# Altium integrated library Atmel Microcontroller 8-Bit AVR.IntLib: 240 symbols (part 2 of 8)
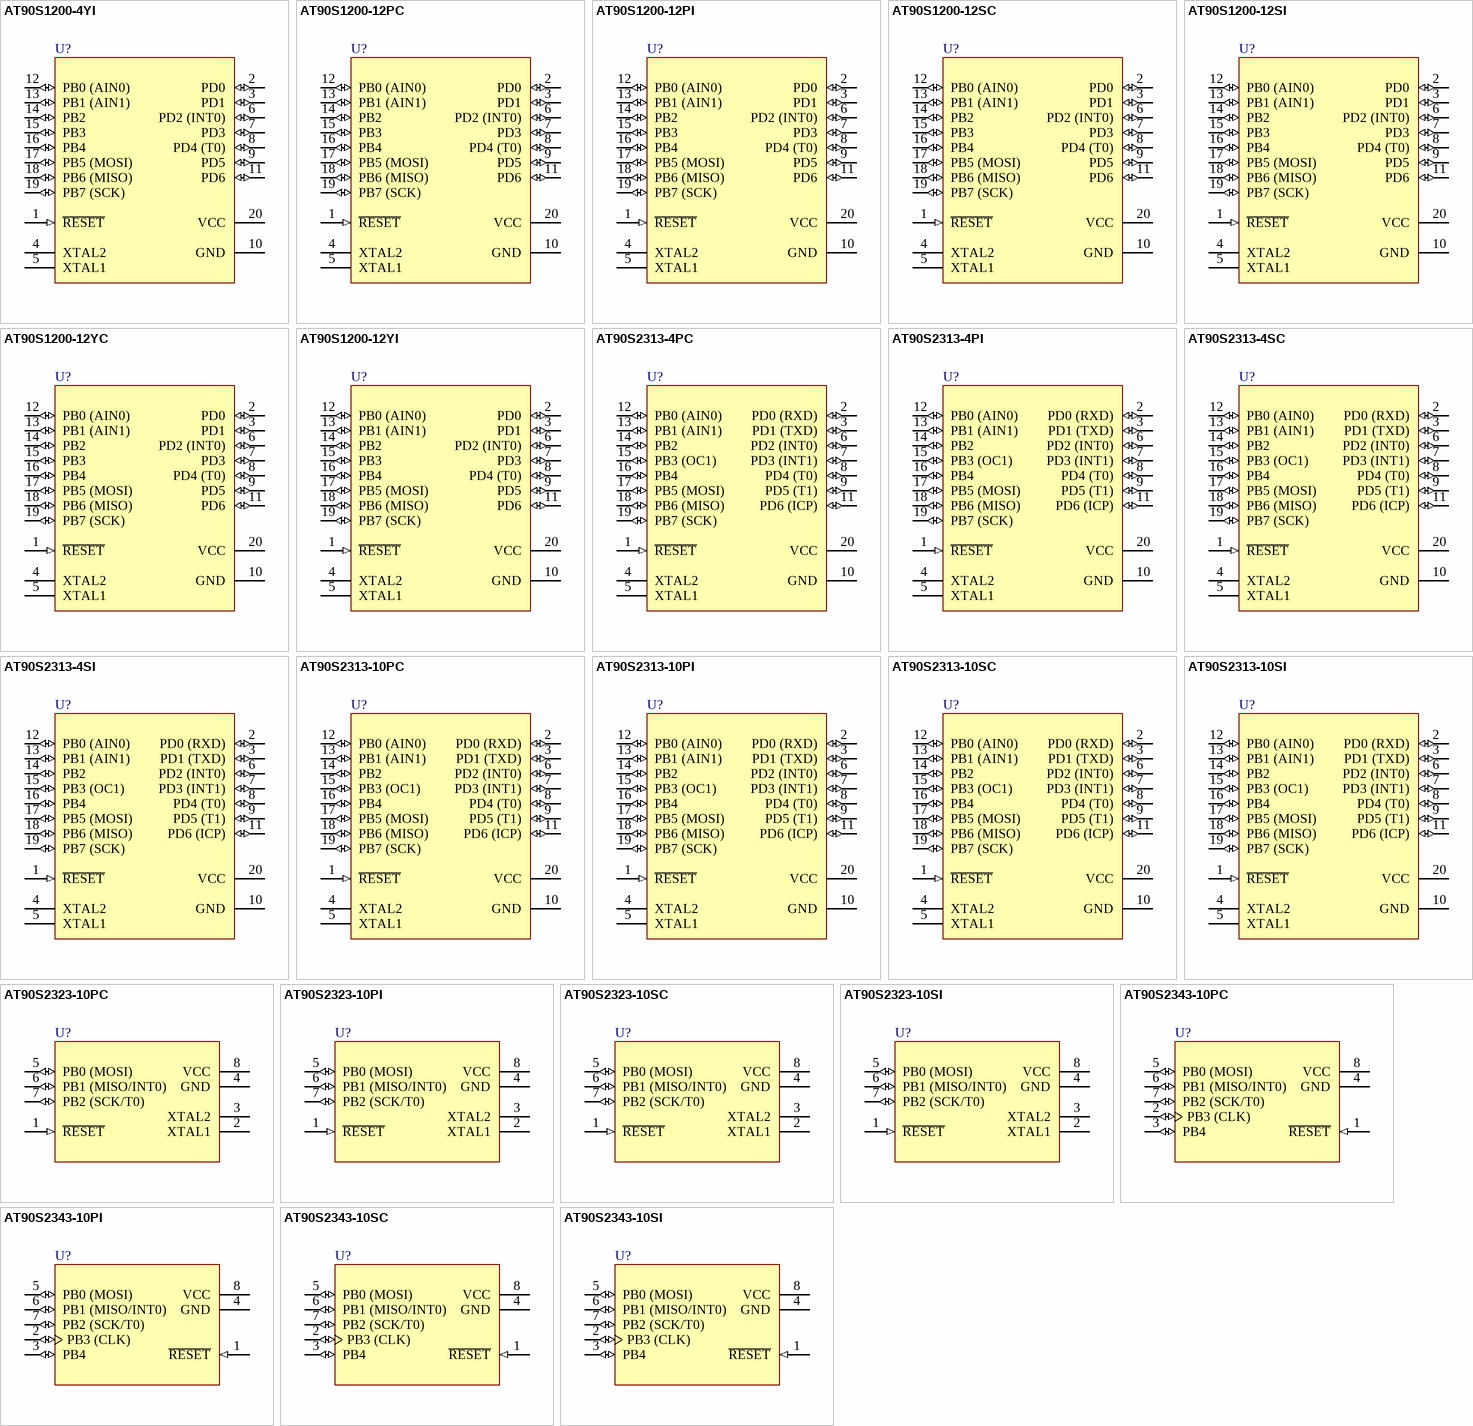
[diagram p19: symbols AT90S1200-4YI to AT90S2343-10SI]

## AT90S1200-12YI
designator U?
8-Bit AVR Microcontroller with 1K Byte of In-System Programmable Flash Memory; Published: 17-Sep-2003; LatestRevisionDate: 16-Oct-2006; LatestRevisionNote: IPC-7351 Footprint Added.; DatasheetVersion: 0838H-AVR-03/02; PackageVersion: revA, Apr-2001; PackageReference: 20Y; Publisher: Altium Limited; PackageDescription: 20-Pin Small Outline Package 0.65 mm Pitch; Code_JEDEC: MO-150-AE; Code_IPC: SOP65P780-20; ComponentLink1Description: Manufacturer Link; ComponentLink1URL: http://www.atmel.com; ComponentLink2Description: Datasheet; ComponentLink2URL: http://www.atmel.com/dyn/resources/prod_documents/doc0838.pdf
footprint 20Y_N (SOP, 20-Leads, Body 7.2x5.3mm, Pitch 0.65mm, IPC Medium Density)
footprint 20Y_L (SOP, 20-Leads, Body 7.2x5.3mm, Pitch 0.65mm, IPC High Density)
footprint 20Y_M (SOP, 20-Leads, Body 7.2x5.3mm, Pitch 0.65mm, IPC Low Density)
3D model 20Y (20-Pin Small Outline Package 0.65 mm Pitch)
pins: 1 ~{RESET} (in), 2 PD0 (io), 3 PD1 (io), 4 XTAL2, 5 XTAL1, 6 PD2 (INT0) (io), 7 PD3 (io), 8 PD4 (T0) (io), 9 PD5 (io), 10 GND (power), 11 PD6 (io), 12 PB0 (AIN0) (io), 13 PB1 (AIN1) (io), 14 PB2 (io), 15 PB3 (io), 16 PB4 (io), 17 PB5 (MOSI) (io), 18 PB6 (MISO) (io), 19 PB7 (SCK) (io), 20 VCC (power)

## AT90S2313-4PC
designator U?
8-Bit AVR Microcontroller with 2K Bytes of In-System Programmable Flash Memory; Published: 17-Sep-2003; LatestRevisionDate: 04-Mar-2005; LatestRevisionNote: Stylized 3D Model Added.; DatasheetVersion: 0839I-AVR-06/02; PackageVersion: Aug-1999; PackageReference: 20P3; Publisher: Altium Limited; PackageDescription: DIP; 20 Leads; Row Spacing 7.62 mm; Pitch 2.54 mm; Code_JEDEC: MS-001-AD; ComponentLink1Description: Manufacturer Link; ComponentLink1URL: http://www.atmel.com; ComponentLink2Description: Datasheet; ComponentLink2URL: http://www.atmel.com/dyn/resources/prod_documents/doc0839.pdf
footprint 20P3 (DIP; 20 Leads; Row Spacing 7.62 mm; Pitch 2.54 mm)
3D model 20P3 (DIP; 20 Leads; Row Spacing 7.62 mm; Pitch 2.54 mm)
pins: 1 ~{RESET} (in), 2 PD0 (RXD) (io), 3 PD1 (TXD) (io), 4 XTAL2, 5 XTAL1, 6 PD2 (INT0) (io), 7 PD3 (INT1) (io), 8 PD4 (T0) (io), 9 PD5 (T1) (io), 10 GND (power), 11 PD6 (ICP) (io), 12 PB0 (AIN0) (io), 13 PB1 (AIN1) (io), 14 PB2 (io), 15 PB3 (OC1) (io), 16 PB4 (io), 17 PB5 (MOSI) (io), 18 PB6 (MISO) (io), 19 PB7 (SCK) (io), 20 VCC (power)

## AT90S2313-4PI
designator U?
8-Bit AVR Microcontroller with 2K Bytes of In-System Programmable Flash Memory; Published: 17-Sep-2003; LatestRevisionDate: 04-Mar-2005; LatestRevisionNote: Stylized 3D Model Added.; DatasheetVersion: 0839I-AVR-06/02; PackageVersion: Aug-1999; PackageReference: 20P3; Publisher: Altium Limited; PackageDescription: DIP; 20 Leads; Row Spacing 7.62 mm; Pitch 2.54 mm; Code_JEDEC: MS-001-AD; ComponentLink1Description: Manufacturer Link; ComponentLink1URL: http://www.atmel.com; ComponentLink2Description: Datasheet; ComponentLink2URL: http://www.atmel.com/dyn/resources/prod_documents/doc0839.pdf
footprint 20P3 (DIP; 20 Leads; Row Spacing 7.62 mm; Pitch 2.54 mm)
3D model 20P3 (DIP; 20 Leads; Row Spacing 7.62 mm; Pitch 2.54 mm)
pins: 1 ~{RESET} (in), 2 PD0 (RXD) (io), 3 PD1 (TXD) (io), 4 XTAL2, 5 XTAL1, 6 PD2 (INT0) (io), 7 PD3 (INT1) (io), 8 PD4 (T0) (io), 9 PD5 (T1) (io), 10 GND (power), 11 PD6 (ICP) (io), 12 PB0 (AIN0) (io), 13 PB1 (AIN1) (io), 14 PB2 (io), 15 PB3 (OC1) (io), 16 PB4 (io), 17 PB5 (MOSI) (io), 18 PB6 (MISO) (io), 19 PB7 (SCK) (io), 20 VCC (power)

## AT90S2313-4SC
designator U?
8-Bit AVR Microcontroller with 2K Bytes of In-System Programmable Flash Memory; Published: 17-Sep-2003; LatestRevisionDate: 13-Apr-2006; LatestRevisionNote: IPC-7351 Footprint Added.; DatasheetVersion: 0839I-AVR-06/02; PackageVersion: Aug-1999; PackageReference: 20S; Publisher: Altium Limited; PackageDescription: 20-Pin Small Outline Integrated Circuit 1.27 mm Pitch; ComponentLink1Description: Manufacturer Link; ComponentLink1URL: http://www.atmel.com; ComponentLink2Description: Datasheet; ComponentLink2URL: http://www.atmel.com/dyn/resources/prod_documents/doc0839.pdf
footprint 20S_N (SOIC, 20-Leads, Body 12.8x7.5mm, Pitch 1.27mm, IPC Medium Density)
footprint 20S_L (SOIC, 20-Leads, Body 12.8x7.5mm, Pitch 1.27mm, IPC High Density)
footprint 20S_M (SOIC, 20-Leads, Body 12.8x7.5mm, Pitch 1.27mm, IPC Low Density)
3D model 20S (20-Pin Small Outline Integrated Circuit 1.27 mm Pitch)
pins: 1 ~{RESET} (in), 2 PD0 (RXD) (io), 3 PD1 (TXD) (io), 4 XTAL2, 5 XTAL1, 6 PD2 (INT0) (io), 7 PD3 (INT1) (io), 8 PD4 (T0) (io), 9 PD5 (T1) (io), 10 GND (power), 11 PD6 (ICP) (io), 12 PB0 (AIN0) (io), 13 PB1 (AIN1) (io), 14 PB2 (io), 15 PB3 (OC1) (io), 16 PB4 (io), 17 PB5 (MOSI) (io), 18 PB6 (MISO) (io), 19 PB7 (SCK) (io), 20 VCC (power)

## AT90S2313-4SI
designator U?
8-Bit AVR Microcontroller with 2K Bytes of In-System Programmable Flash Memory; Published: 17-Sep-2003; LatestRevisionDate: 13-Apr-2006; LatestRevisionNote: IPC-7351 Footprint Added.; DatasheetVersion: 0839I-AVR-06/02; PackageVersion: Aug-1999; PackageReference: 20S; Publisher: Altium Limited; PackageDescription: 20-Pin Small Outline Integrated Circuit 1.27 mm Pitch; ComponentLink1Description: Manufacturer Link; ComponentLink1URL: http://www.atmel.com; ComponentLink2Description: Datasheet; ComponentLink2URL: http://www.atmel.com/dyn/resources/prod_documents/doc0839.pdf
footprint 20S_N (SOIC, 20-Leads, Body 12.8x7.5mm, Pitch 1.27mm, IPC Medium Density)
footprint 20S_L (SOIC, 20-Leads, Body 12.8x7.5mm, Pitch 1.27mm, IPC High Density)
footprint 20S_M (SOIC, 20-Leads, Body 12.8x7.5mm, Pitch 1.27mm, IPC Low Density)
3D model 20S (20-Pin Small Outline Integrated Circuit 1.27 mm Pitch)
pins: 1 ~{RESET} (in), 2 PD0 (RXD) (io), 3 PD1 (TXD) (io), 4 XTAL2, 5 XTAL1, 6 PD2 (INT0) (io), 7 PD3 (INT1) (io), 8 PD4 (T0) (io), 9 PD5 (T1) (io), 10 GND (power), 11 PD6 (ICP) (io), 12 PB0 (AIN0) (io), 13 PB1 (AIN1) (io), 14 PB2 (io), 15 PB3 (OC1) (io), 16 PB4 (io), 17 PB5 (MOSI) (io), 18 PB6 (MISO) (io), 19 PB7 (SCK) (io), 20 VCC (power)

## AT90S2313-10PC
designator U?
8-Bit AVR Microcontroller with 2K Bytes of In-System Programmable Flash Memory; Published: 17-Sep-2003; LatestRevisionDate: 04-Mar-2005; LatestRevisionNote: Stylized 3D Model Added.; DatasheetVersion: 0839I-AVR-06/02; PackageVersion: Aug-1999; PackageReference: 20P3; Publisher: Altium Limited; PackageDescription: DIP; 20 Leads; Row Spacing 7.62 mm; Pitch 2.54 mm; Code_JEDEC: MS-001-AD; ComponentLink1Description: Manufacturer Link; ComponentLink1URL: http://www.atmel.com; ComponentLink2Description: Datasheet; ComponentLink2URL: http://www.atmel.com/dyn/resources/prod_documents/doc0839.pdf
footprint 20P3 (DIP; 20 Leads; Row Spacing 7.62 mm; Pitch 2.54 mm)
3D model 20P3 (DIP; 20 Leads; Row Spacing 7.62 mm; Pitch 2.54 mm)
pins: 1 ~{RESET} (in), 2 PD0 (RXD) (io), 3 PD1 (TXD) (io), 4 XTAL2, 5 XTAL1, 6 PD2 (INT0) (io), 7 PD3 (INT1) (io), 8 PD4 (T0) (io), 9 PD5 (T1) (io), 10 GND (power), 11 PD6 (ICP) (io), 12 PB0 (AIN0) (io), 13 PB1 (AIN1) (io), 14 PB2 (io), 15 PB3 (OC1) (io), 16 PB4 (io), 17 PB5 (MOSI) (io), 18 PB6 (MISO) (io), 19 PB7 (SCK) (io), 20 VCC (power)

## AT90S2313-10PI
designator U?
8-Bit AVR Microcontroller with 2K Bytes of In-System Programmable Flash Memory; Published: 17-Sep-2003; LatestRevisionDate: 04-Mar-2005; LatestRevisionNote: Stylized 3D Model Added.; DatasheetVersion: 0839I-AVR-06/02; PackageVersion: Aug-1999; PackageReference: 20P3; Publisher: Altium Limited; PackageDescription: DIP; 20 Leads; Row Spacing 7.62 mm; Pitch 2.54 mm; Code_JEDEC: MS-001-AD; ComponentLink1Description: Manufacturer Link; ComponentLink1URL: http://www.atmel.com; ComponentLink2Description: Datasheet; ComponentLink2URL: http://www.atmel.com/dyn/resources/prod_documents/doc0839.pdf
footprint 20P3 (DIP; 20 Leads; Row Spacing 7.62 mm; Pitch 2.54 mm)
3D model 20P3 (DIP; 20 Leads; Row Spacing 7.62 mm; Pitch 2.54 mm)
pins: 1 ~{RESET} (in), 2 PD0 (RXD) (io), 3 PD1 (TXD) (io), 4 XTAL2, 5 XTAL1, 6 PD2 (INT0) (io), 7 PD3 (INT1) (io), 8 PD4 (T0) (io), 9 PD5 (T1) (io), 10 GND (power), 11 PD6 (ICP) (io), 12 PB0 (AIN0) (io), 13 PB1 (AIN1) (io), 14 PB2 (io), 15 PB3 (OC1) (io), 16 PB4 (io), 17 PB5 (MOSI) (io), 18 PB6 (MISO) (io), 19 PB7 (SCK) (io), 20 VCC (power)

## AT90S2313-10SC
designator U?
8-Bit AVR Microcontroller with 2K Bytes of In-System Programmable Flash Memory; Published: 17-Sep-2003; LatestRevisionDate: 13-Apr-2006; LatestRevisionNote: IPC-7351 Footprint Added.; DatasheetVersion: 0839I-AVR-06/02; PackageVersion: Aug-1999; PackageReference: 20S; Publisher: Altium Limited; PackageDescription: 20-Pin Small Outline Integrated Circuit 1.27 mm Pitch; ComponentLink1Description: Manufacturer Link; ComponentLink1URL: http://www.atmel.com; ComponentLink2Description: Datasheet; ComponentLink2URL: http://www.atmel.com/dyn/resources/prod_documents/doc0839.pdf
footprint 20S_N (SOIC, 20-Leads, Body 12.8x7.5mm, Pitch 1.27mm, IPC Medium Density)
footprint 20S_L (SOIC, 20-Leads, Body 12.8x7.5mm, Pitch 1.27mm, IPC High Density)
footprint 20S_M (SOIC, 20-Leads, Body 12.8x7.5mm, Pitch 1.27mm, IPC Low Density)
3D model 20S (20-Pin Small Outline Integrated Circuit 1.27 mm Pitch)
pins: 1 ~{RESET} (in), 2 PD0 (RXD) (io), 3 PD1 (TXD) (io), 4 XTAL2, 5 XTAL1, 6 PD2 (INT0) (io), 7 PD3 (INT1) (io), 8 PD4 (T0) (io), 9 PD5 (T1) (io), 10 GND (power), 11 PD6 (ICP) (io), 12 PB0 (AIN0) (io), 13 PB1 (AIN1) (io), 14 PB2 (io), 15 PB3 (OC1) (io), 16 PB4 (io), 17 PB5 (MOSI) (io), 18 PB6 (MISO) (io), 19 PB7 (SCK) (io), 20 VCC (power)

## AT90S2313-10SI
designator U?
8-Bit AVR Microcontroller with 2K Bytes of In-System Programmable Flash Memory; Published: 17-Sep-2003; LatestRevisionDate: 13-Apr-2006; LatestRevisionNote: IPC-7351 Footprint Added.; DatasheetVersion: 0839I-AVR-06/02; PackageVersion: Aug-1999; PackageReference: 20S; Publisher: Altium Limited; PackageDescription: 20-Pin Small Outline Integrated Circuit 1.27 mm Pitch; ComponentLink1Description: Manufacturer Link; ComponentLink1URL: http://www.atmel.com; ComponentLink2Description: Datasheet; ComponentLink2URL: http://www.atmel.com/dyn/resources/prod_documents/doc0839.pdf
footprint 20S_N (SOIC, 20-Leads, Body 12.8x7.5mm, Pitch 1.27mm, IPC Medium Density)
footprint 20S_L (SOIC, 20-Leads, Body 12.8x7.5mm, Pitch 1.27mm, IPC High Density)
footprint 20S_M (SOIC, 20-Leads, Body 12.8x7.5mm, Pitch 1.27mm, IPC Low Density)
3D model 20S (20-Pin Small Outline Integrated Circuit 1.27 mm Pitch)
pins: 1 ~{RESET} (in), 2 PD0 (RXD) (io), 3 PD1 (TXD) (io), 4 XTAL2, 5 XTAL1, 6 PD2 (INT0) (io), 7 PD3 (INT1) (io), 8 PD4 (T0) (io), 9 PD5 (T1) (io), 10 GND (power), 11 PD6 (ICP) (io), 12 PB0 (AIN0) (io), 13 PB1 (AIN1) (io), 14 PB2 (io), 15 PB3 (OC1) (io), 16 PB4 (io), 17 PB5 (MOSI) (io), 18 PB6 (MISO) (io), 19 PB7 (SCK) (io), 20 VCC (power)

## AT90S2323-10PC
designator U?
8-Bit AVR Microcontroller with 2K Bytes of In-System Programmable Flash Memory; Published: 17-Sep-2003; LatestRevisionDate: 04-Mar-2005; LatestRevisionNote: Stylized 3D Model Added.; DatasheetVersion: 1004D-09/01; PackageVersion: revB, Sep-2001; PackageReference: 8P3; Publisher: Altium Limited; PackageDescription: DIP; 8 Leads; Row Spacing 7.62 mm; Pitch 2.54 mm; ComponentLink1Description: Manufacturer Link; ComponentLink1URL: http://www.atmel.com; ComponentLink2Description: Datasheet; ComponentLink2URL: http://www.atmel.com/dyn/resources/prod_documents/doc1004.pdf
footprint 8P3 (DIP; 8 Leads; Row Spacing 7.62 mm; Pitch 2.54 mm)
3D model 8P3 (DIP; 8 Leads; Row Spacing 7.62 mm; Pitch 2.54 mm)
pins: 1 ~{RESET} (in), 2 XTAL1, 3 XTAL2, 4 GND (power), 5 PB0 (MOSI) (io), 6 PB1 (MISO/INT0) (io), 7 PB2 (SCK/T0) (io), 8 VCC (power)

## AT90S2323-10PI
designator U?
8-Bit AVR Microcontroller with 2K Bytes of In-System Programmable Flash Memory; Published: 17-Sep-2003; LatestRevisionDate: 04-Mar-2005; LatestRevisionNote: Stylized 3D Model Added.; DatasheetVersion: 1004D-09/01; PackageVersion: revB, Sep-2001; PackageReference: 8P3; Publisher: Altium Limited; PackageDescription: DIP; 8 Leads; Row Spacing 7.62 mm; Pitch 2.54 mm; ComponentLink1Description: Manufacturer Link; ComponentLink1URL: http://www.atmel.com; ComponentLink2Description: Datasheet; ComponentLink2URL: http://www.atmel.com/dyn/resources/prod_documents/doc1004.pdf
footprint 8P3 (DIP; 8 Leads; Row Spacing 7.62 mm; Pitch 2.54 mm)
3D model 8P3 (DIP; 8 Leads; Row Spacing 7.62 mm; Pitch 2.54 mm)
pins: 1 ~{RESET} (in), 2 XTAL1, 3 XTAL2, 4 GND (power), 5 PB0 (MOSI) (io), 6 PB1 (MISO/INT0) (io), 7 PB2 (SCK/T0) (io), 8 VCC (power)

## AT90S2323-10SC
designator U?
8-Bit AVR Microcontroller with 2K Bytes of In-System Programmable Flash Memory; Published: 17-Sep-2003; LatestRevisionDate: 13-Apr-2006; LatestRevisionNote: IPC-7351 Footprint Added.; DatasheetVersion: 1004D-09/01; PackageVersion: revB, May-2002; PackageReference: 8S2; Publisher: Altium Limited; PackageDescription: 8-Pin Small Outline Package 1.27 mm Pitch; ComponentLink1Description: Manufacturer Link; ComponentLink1URL: http://www.atmel.com; ComponentLink2Description: Datasheet; ComponentLink2URL: http://www.atmel.com/dyn/resources/prod_documents/doc1004.pdf
footprint 8S2_N (SOP, 8-Leads, Body 5.3x5.3mm, Pitch 1.27mm, IPC Medium Density)
footprint 8S2_L (SOP, 8-Leads, Body 5.3x5.3mm, Pitch 1.27mm, IPC High Density)
footprint 8S2_M (SOP, 8-Leads, Body 5.3x5.3mm, Pitch 1.27mm, IPC Low Density)
3D model 8S2 (8-Pin Small Outline Package 1.27 mm Pitch)
pins: 1 ~{RESET} (in), 2 XTAL1, 3 XTAL2, 4 GND (power), 5 PB0 (MOSI) (io), 6 PB1 (MISO/INT0) (io), 7 PB2 (SCK/T0) (io), 8 VCC (power)

## AT90S2323-10SI
designator U?
8-Bit AVR Microcontroller with 2K Bytes of In-System Programmable Flash Memory; Published: 17-Sep-2003; LatestRevisionDate: 13-Apr-2006; LatestRevisionNote: IPC-7351 Footprint Added.; DatasheetVersion: 1004D-09/01; PackageVersion: revB, May-2002; PackageReference: 8S2; Publisher: Altium Limited; PackageDescription: 8-Pin Small Outline Package 1.27 mm Pitch; ComponentLink1Description: Manufacturer Link; ComponentLink1URL: http://www.atmel.com; ComponentLink2Description: Datasheet; ComponentLink2URL: http://www.atmel.com/dyn/resources/prod_documents/doc1004.pdf
footprint 8S2_N (SOP, 8-Leads, Body 5.3x5.3mm, Pitch 1.27mm, IPC Medium Density)
footprint 8S2_L (SOP, 8-Leads, Body 5.3x5.3mm, Pitch 1.27mm, IPC High Density)
footprint 8S2_M (SOP, 8-Leads, Body 5.3x5.3mm, Pitch 1.27mm, IPC Low Density)
3D model 8S2 (8-Pin Small Outline Package 1.27 mm Pitch)
pins: 1 ~{RESET} (in), 2 XTAL1, 3 XTAL2, 4 GND (power), 5 PB0 (MOSI) (io), 6 PB1 (MISO/INT0) (io), 7 PB2 (SCK/T0) (io), 8 VCC (power)

## AT90S2343-10PC
designator U?
8-Bit AVR Microcontroller with 2K Bytes of In-System Programmable Flash Memory; Published: 17-Sep-2003; LatestRevisionDate: 04-Mar-2005; LatestRevisionNote: Stylized 3D Model Added.; DatasheetVersion: 1004D-09/01; PackageVersion: revB, Sep-2001; PackageReference: 8P3; Publisher: Altium Limited; PackageDescription: DIP; 8 Leads; Row Spacing 7.62 mm; Pitch 2.54 mm; ComponentLink1Description: Manufacturer Link; ComponentLink1URL: http://www.atmel.com; ComponentLink2Description: Datasheet; ComponentLink2URL: http://www.atmel.com/dyn/resources/prod_documents/doc1004.pdf
footprint 8P3 (DIP; 8 Leads; Row Spacing 7.62 mm; Pitch 2.54 mm)
3D model 8P3 (DIP; 8 Leads; Row Spacing 7.62 mm; Pitch 2.54 mm)
pins: 1 ~{RESET} (in), 2 PB3 (CLK) (io), 3 PB4 (io), 4 GND (power), 5 PB0 (MOSI) (io), 6 PB1 (MISO/INT0) (io), 7 PB2 (SCK/T0) (io), 8 VCC (power)

## AT90S2343-10PI
designator U?
8-Bit AVR Microcontroller with 2K Bytes of In-System Programmable Flash Memory; Published: 17-Sep-2003; LatestRevisionDate: 04-Mar-2005; LatestRevisionNote: Stylized 3D Model Added.; DatasheetVersion: 1004D-09/01; PackageVersion: revB, Sep-2001; PackageReference: 8P3; Publisher: Altium Limited; PackageDescription: DIP; 8 Leads; Row Spacing 7.62 mm; Pitch 2.54 mm; ComponentLink1Description: Manufacturer Link; ComponentLink1URL: http://www.atmel.com; ComponentLink2Description: Datasheet; ComponentLink2URL: http://www.atmel.com/dyn/resources/prod_documents/doc1004.pdf
footprint 8P3 (DIP; 8 Leads; Row Spacing 7.62 mm; Pitch 2.54 mm)
3D model 8P3 (DIP; 8 Leads; Row Spacing 7.62 mm; Pitch 2.54 mm)
pins: 1 ~{RESET} (in), 2 PB3 (CLK) (io), 3 PB4 (io), 4 GND (power), 5 PB0 (MOSI) (io), 6 PB1 (MISO/INT0) (io), 7 PB2 (SCK/T0) (io), 8 VCC (power)

## AT90S2343-10SC
designator U?
8-Bit AVR Microcontroller with 2K Bytes of In-System Programmable Flash Memory; Published: 17-Sep-2003; LatestRevisionDate: 13-Apr-2006; LatestRevisionNote: IPC-7351 Footprint Added.; DatasheetVersion: 1004D-09/01; PackageVersion: revB, May-2002; PackageReference: 8S2; Publisher: Altium Limited; PackageDescription: 8-Pin Small Outline Package 1.27 mm Pitch; ComponentLink1Description: Manufacturer Link; ComponentLink1URL: http://www.atmel.com; ComponentLink2Description: Datasheet; ComponentLink2URL: http://www.atmel.com/dyn/resources/prod_documents/doc1004.pdf
footprint 8S2_N (SOP, 8-Leads, Body 5.3x5.3mm, Pitch 1.27mm, IPC Medium Density)
footprint 8S2_L (SOP, 8-Leads, Body 5.3x5.3mm, Pitch 1.27mm, IPC High Density)
footprint 8S2_M (SOP, 8-Leads, Body 5.3x5.3mm, Pitch 1.27mm, IPC Low Density)
3D model 8S2 (8-Pin Small Outline Package 1.27 mm Pitch)
pins: 1 ~{RESET} (in), 2 PB3 (CLK) (io), 3 PB4 (io), 4 GND (power), 5 PB0 (MOSI) (io), 6 PB1 (MISO/INT0) (io), 7 PB2 (SCK/T0) (io), 8 VCC (power)

## AT90S2343-10SI
designator U?
8-Bit AVR Microcontroller with 2K Bytes of In-System Programmable Flash Memory; Published: 17-Sep-2003; LatestRevisionDate: 13-Apr-2006; LatestRevisionNote: IPC-7351 Footprint Added.; DatasheetVersion: 1004D-09/01; PackageVersion: revB, May-2002; PackageReference: 8S2; Publisher: Altium Limited; PackageDescription: 8-Pin Small Outline Package 1.27 mm Pitch; ComponentLink1Description: Manufacturer Link; ComponentLink1URL: http://www.atmel.com; ComponentLink2Description: Datasheet; ComponentLink2URL: http://www.atmel.com/dyn/resources/prod_documents/doc1004.pdf
footprint 8S2_N (SOP, 8-Leads, Body 5.3x5.3mm, Pitch 1.27mm, IPC Medium Density)
footprint 8S2_L (SOP, 8-Leads, Body 5.3x5.3mm, Pitch 1.27mm, IPC High Density)
footprint 8S2_M (SOP, 8-Leads, Body 5.3x5.3mm, Pitch 1.27mm, IPC Low Density)
3D model 8S2 (8-Pin Small Outline Package 1.27 mm Pitch)
pins: 1 ~{RESET} (in), 2 PB3 (CLK) (io), 3 PB4 (io), 4 GND (power), 5 PB0 (MOSI) (io), 6 PB1 (MISO/INT0) (io), 7 PB2 (SCK/T0) (io), 8 VCC (power)

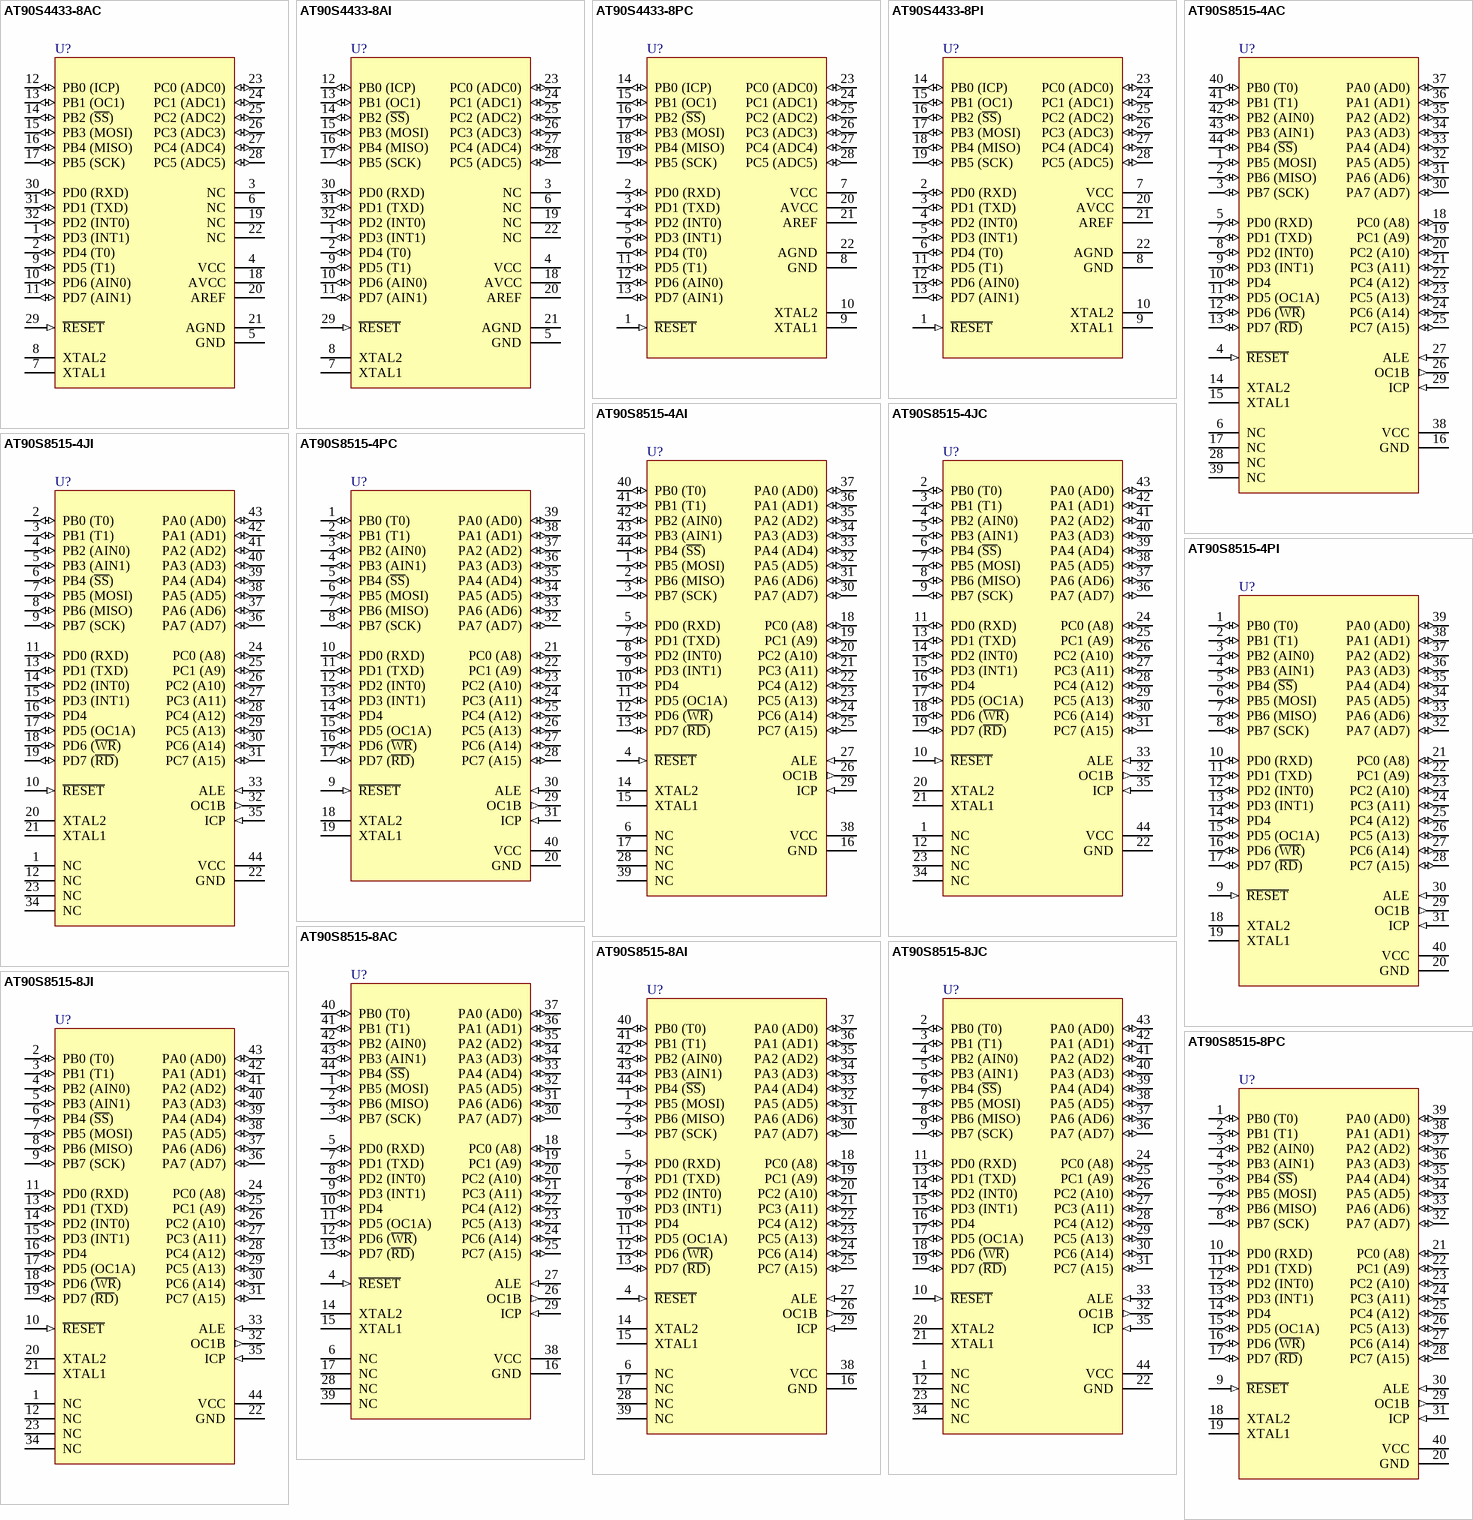
[diagram p3: symbols AT90S4433-8AC to AT90S8515-8PC]

## AT90S4433-8AC
designator U?
8-Bit AVR Microcontroller with 4K Bytes of In-System Programmable Flash Memory; Published: 17-Sep-2003; LatestRevisionDate: 13-Apr-2006; LatestRevisionNote: IPC-7351 Footprint Added.; DatasheetVersion: 1042G-AVR-09/02; PackageVersion: revB, Oct-2001; PackageReference: 32A; Publisher: Altium Limited; PackageDescription: 32-Pin Thin Quad Flat Pack 0.8 mm Pitch; Code_JEDEC: MS-026-ABA; ComponentLink1Description: Manufacturer Link; ComponentLink1URL: http://www.atmel.com; ComponentLink2Description: Datasheet; ComponentLink2URL: http://www.atmel.com/dyn/resources/prod_documents/doc1042.pdf
footprint 32A_N (Thin QFP, 32-Leads, Body 7x7mm, Pitch 0.8mm, IPC Medium Density)
footprint 32A_L (Thin QFP, 32-Leads, Body 7x7mm, Pitch 0.8mm, IPC High Density)
footprint 32A_M (Thin QFP, 32-Leads, Body 7x7mm, Pitch 0.8mm, IPC Low Density)
3D model AT90S4433-32A (32-Pin Thin Quad Flat Pack 0.8 mm Pitch)
pins: 1 PD3 (INT1) (io), 2 PD4 (T0) (io), 3 NC, 4 VCC (power), 5 GND (power), 6 NC, 7 XTAL1, 8 XTAL2, 9 PD5 (T1) (io), 10 PD6 (AIN0) (io), 11 PD7 (AIN1) (io), 12 PB0 (ICP) (io), 13 PB1 (OC1) (io), 14 PB2 (~{SS}) (io), 15 PB3 (MOSI) (io), 16 PB4 (MISO) (io), 17 PB5 (SCK) (io), 18 AVCC (power), 19 NC, 20 AREF, 21 AGND (power), 22 NC, 23 PC0 (ADC0) (io), 24 PC1 (ADC1) (io), 25 PC2 (ADC2) (io), 26 PC3 (ADC3) (io), 27 PC4 (ADC4) (io), 28 PC5 (ADC5) (io), 29 ~{RESET} (in), 30 PD0 (RXD) (io), 31 PD1 (TXD) (io), 32 PD2 (INT0) (io)

## AT90S4433-8AI
designator U?
8-Bit AVR Microcontroller with 4K Bytes of In-System Programmable Flash Memory; Published: 17-Sep-2003; LatestRevisionDate: 13-Apr-2006; LatestRevisionNote: IPC-7351 Footprint Added.; DatasheetVersion: 1042G-AVR-09/02; PackageVersion: revB, Oct-2001; PackageReference: 32A; Publisher: Altium Limited; PackageDescription: 32-Pin Thin Quad Flat Pack 0.8 mm Pitch; Code_JEDEC: MS-026-ABA; ComponentLink1Description: Manufacturer Link; ComponentLink1URL: http://www.atmel.com; ComponentLink2Description: Datasheet; ComponentLink2URL: http://www.atmel.com/dyn/resources/prod_documents/doc1042.pdf
footprint 32A_N (Thin QFP, 32-Leads, Body 7x7mm, Pitch 0.8mm, IPC Medium Density)
footprint 32A_L (Thin QFP, 32-Leads, Body 7x7mm, Pitch 0.8mm, IPC High Density)
footprint 32A_M (Thin QFP, 32-Leads, Body 7x7mm, Pitch 0.8mm, IPC Low Density)
3D model AT90S4433-32A (32-Pin Thin Quad Flat Pack 0.8 mm Pitch)
pins: 1 PD3 (INT1) (io), 2 PD4 (T0) (io), 3 NC, 4 VCC (power), 5 GND (power), 6 NC, 7 XTAL1, 8 XTAL2, 9 PD5 (T1) (io), 10 PD6 (AIN0) (io), 11 PD7 (AIN1) (io), 12 PB0 (ICP) (io), 13 PB1 (OC1) (io), 14 PB2 (~{SS}) (io), 15 PB3 (MOSI) (io), 16 PB4 (MISO) (io), 17 PB5 (SCK) (io), 18 AVCC (power), 19 NC, 20 AREF, 21 AGND (power), 22 NC, 23 PC0 (ADC0) (io), 24 PC1 (ADC1) (io), 25 PC2 (ADC2) (io), 26 PC3 (ADC3) (io), 27 PC4 (ADC4) (io), 28 PC5 (ADC5) (io), 29 ~{RESET} (in), 30 PD0 (RXD) (io), 31 PD1 (TXD) (io), 32 PD2 (INT0) (io)

## AT90S4433-8PC
designator U?
8-Bit AVR Microcontroller with 4K Bytes of In-System Programmable Flash Memory; Published: 17-Sep-2003; LatestRevisionDate: 04-Mar-2005; LatestRevisionNote: Stylized 3D Model Added.; DatasheetVersion: 1042G-AVR-09/02; PackageVersion: revB, Sep-2001; PackageReference: 28P3; Publisher: Altium Limited; PackageDescription: DIP; 28 Leads; Row Spacing 7.62 mm; Pitch 2.54 mm; ComponentLink1Description: Manufacturer Link; ComponentLink1URL: http://www.atmel.com; ComponentLink2Description: Datasheet; ComponentLink2URL: http://www.atmel.com/dyn/resources/prod_documents/doc1042.pdf
footprint 28P3 (DIP; 28 Leads; Row Spacing 7.62 mm; Pitch 2.54 mm)
3D model 28P3 (DIP; 28 Leads; Row Spacing 7.62 mm; Pitch 2.54 mm)
pins: 1 ~{RESET} (in), 2 PD0 (RXD) (io), 3 PD1 (TXD) (io), 4 PD2 (INT0) (io), 5 PD3 (INT1) (io), 6 PD4 (T0) (io), 7 VCC (power), 8 GND (power), 9 XTAL1, 10 XTAL2, 11 PD5 (T1) (io), 12 PD6 (AIN0) (io), 13 PD7 (AIN1) (io), 14 PB0 (ICP) (io), 15 PB1 (OC1) (io), 16 PB2 (~{SS}) (io), 17 PB3 (MOSI) (io), 18 PB4 (MISO) (io), 19 PB5 (SCK) (io), 20 AVCC (power), 21 AREF, 22 AGND (power), 23 PC0 (ADC0) (io), 24 PC1 (ADC1) (io), 25 PC2 (ADC2) (io), 26 PC3 (ADC3) (io), 27 PC4 (ADC4) (io), 28 PC5 (ADC5) (io)

## AT90S4433-8PI
designator U?
8-Bit AVR Microcontroller with 4K Bytes of In-System Programmable Flash Memory; Published: 17-Sep-2003; LatestRevisionDate: 04-Mar-2005; LatestRevisionNote: Stylized 3D Model Added.; DatasheetVersion: 1042G-AVR-09/02; PackageVersion: revB, Sep-2001; PackageReference: 28P3; Publisher: Altium Limited; PackageDescription: DIP; 28 Leads; Row Spacing 7.62 mm; Pitch 2.54 mm; ComponentLink1Description: Manufacturer Link; ComponentLink1URL: http://www.atmel.com; ComponentLink2Description: Datasheet; ComponentLink2URL: http://www.atmel.com/dyn/resources/prod_documents/doc1042.pdf
footprint 28P3 (DIP; 28 Leads; Row Spacing 7.62 mm; Pitch 2.54 mm)
3D model 28P3 (DIP; 28 Leads; Row Spacing 7.62 mm; Pitch 2.54 mm)
pins: 1 ~{RESET} (in), 2 PD0 (RXD) (io), 3 PD1 (TXD) (io), 4 PD2 (INT0) (io), 5 PD3 (INT1) (io), 6 PD4 (T0) (io), 7 VCC (power), 8 GND (power), 9 XTAL1, 10 XTAL2, 11 PD5 (T1) (io), 12 PD6 (AIN0) (io), 13 PD7 (AIN1) (io), 14 PB0 (ICP) (io), 15 PB1 (OC1) (io), 16 PB2 (~{SS}) (io), 17 PB3 (MOSI) (io), 18 PB4 (MISO) (io), 19 PB5 (SCK) (io), 20 AVCC (power), 21 AREF, 22 AGND (power), 23 PC0 (ADC0) (io), 24 PC1 (ADC1) (io), 25 PC2 (ADC2) (io), 26 PC3 (ADC3) (io), 27 PC4 (ADC4) (io), 28 PC5 (ADC5) (io)

## AT90S8515-4AC
designator U?
8-Bit AVR Microcontroller with 8K Bytes of In-System Programmable Flash Memory; Published: 17-Sep-2003; LatestRevisionDate: 13-Apr-2006; LatestRevisionNote: IPC-7351 Footprint Added.; DatasheetVersion: 0841G-09/01; PackageVersion: rev.B, Oct-2001; PackageReference: 44A; Publisher: Altium Limited; PackageDescription: 44-Pin Thin Quad Flat Pack 0.8 mm Pitch; ComponentLink1Description: Manufacturer Link; ComponentLink1URL: http://www.atmel.com; ComponentLink2Description: Datasheet; ComponentLink2URL: http://www.atmel.com/dyn/resources/prod_documents/doc0841.pdf
footprint 44A_N (Thin QFP, 44-Leads, Body 10x10mm, Pitch 0.8mm, IPC Medium Density)
footprint 44A_L (Thin QFP, 44-Leads, Body 10x10mm, Pitch 0.8mm, IPC High Density)
footprint 44A_M (Thin QFP, 44-Leads, Body 10x10mm, Pitch 0.8mm, IPC Low Density)
3D model AT90S8515-44A (44-Pin Thin Quad Flat Pack 0.8 mm Pitch)
pins: 1 PB5 (MOSI) (io), 2 PB6 (MISO) (io), 3 PB7 (SCK) (io), 4 ~{RESET} (in), 5 PD0 (RXD) (io), 6 NC, 7 PD1 (TXD) (io), 8 PD2 (INT0) (io), 9 PD3 (INT1) (io), 10 PD4 (io), 11 PD5 (OC1A) (io), 12 PD6 (~{WR}) (io), 13 PD7 (~{RD}) (io), 14 XTAL2, 15 XTAL1, 16 GND (power), 17 NC, 18 PC0 (A8) (io), 19 PC1 (A9) (io), 20 PC2 (A10) (io), 21 PC3 (A11) (io), 22 PC4 (A12) (io), 23 PC5 (A13) (io), 24 PC6 (A14) (io), 25 PC7 (A15) (io), 26 OC1B (out), 27 ALE (in), 28 NC, 29 ICP (in), 30 PA7 (AD7) (io), 31 PA6 (AD6) (io), 32 PA5 (AD5) (io), 33 PA4 (AD4) (io), 34 PA3 (AD3) (io), 35 PA2 (AD2) (io), 36 PA1 (AD1) (io), 37 PA0 (AD0) (io), 38 VCC (power), 39 NC, 40 PB0 (T0) (io), 41 PB1 (T1) (io), 42 PB2 (AIN0) (io), 43 PB3 (AIN1) (io), 44 PB4 (~{SS}) (io)

## AT90S8515-4AI
designator U?
8-Bit AVR Microcontroller with 8K Bytes of In-System Programmable Flash Memory; Published: 17-Sep-2003; LatestRevisionDate: 13-Apr-2006; LatestRevisionNote: IPC-7351 Footprint Added.; DatasheetVersion: 0841G-09/01; PackageVersion: rev.B, Oct-2001; PackageReference: 44A; Publisher: Altium Limited; PackageDescription: 44-Pin Thin Quad Flat Pack 0.8 mm Pitch; ComponentLink1Description: Manufacturer Link; ComponentLink1URL: http://www.atmel.com; ComponentLink2Description: Datasheet; ComponentLink2URL: http://www.atmel.com/dyn/resources/prod_documents/doc0841.pdf
footprint 44A_N (Thin QFP, 44-Leads, Body 10x10mm, Pitch 0.8mm, IPC Medium Density)
footprint 44A_L (Thin QFP, 44-Leads, Body 10x10mm, Pitch 0.8mm, IPC High Density)
footprint 44A_M (Thin QFP, 44-Leads, Body 10x10mm, Pitch 0.8mm, IPC Low Density)
3D model AT90S8515-44A (44-Pin Thin Quad Flat Pack 0.8 mm Pitch)
pins: 1 PB5 (MOSI) (io), 2 PB6 (MISO) (io), 3 PB7 (SCK) (io), 4 ~{RESET} (in), 5 PD0 (RXD) (io), 6 NC, 7 PD1 (TXD) (io), 8 PD2 (INT0) (io), 9 PD3 (INT1) (io), 10 PD4 (io), 11 PD5 (OC1A) (io), 12 PD6 (~{WR}) (io), 13 PD7 (~{RD}) (io), 14 XTAL2, 15 XTAL1, 16 GND (power), 17 NC, 18 PC0 (A8) (io), 19 PC1 (A9) (io), 20 PC2 (A10) (io), 21 PC3 (A11) (io), 22 PC4 (A12) (io), 23 PC5 (A13) (io), 24 PC6 (A14) (io), 25 PC7 (A15) (io), 26 OC1B (out), 27 ALE (in), 28 NC, 29 ICP (in), 30 PA7 (AD7) (io), 31 PA6 (AD6) (io), 32 PA5 (AD5) (io), 33 PA4 (AD4) (io), 34 PA3 (AD3) (io), 35 PA2 (AD2) (io), 36 PA1 (AD1) (io), 37 PA0 (AD0) (io), 38 VCC (power), 39 NC, 40 PB0 (T0) (io), 41 PB1 (T1) (io), 42 PB2 (AIN0) (io), 43 PB3 (AIN1) (io), 44 PB4 (~{SS}) (io)

## AT90S8515-4JC
designator U?
8-Bit AVR Microcontroller with 8K Bytes of In-System Programmable Flash Memory; Published: 17-Sep-2003; LatestRevisionDate: 13-Apr-2006; LatestRevisionNote: IPC-7351 Footprint Added.; DatasheetVersion: 0841G-09/01; PackageVersion: rev.B, Oct-2001; PackageReference: 44J; Publisher: Altium Limited; PackageDescription: 44-Pin Leaded Chip Carrier 1.27 mm Pitch; Code_JEDEC: MS-018-AC; Code_IPC: PLCC-44; ComponentLink1Description: Manufacturer Link; ComponentLink1URL: http://www.atmel.com; ComponentLink2Description: Datasheet; ComponentLink2URL: http://www.atmel.com/dyn/resources/prod_documents/doc0841.pdf
footprint 44J_N (Leaded Chip Carrier, 44-Leads, Body 16.6x16.6mm, Pitch 1.27mm, IPC Medium Density)
footprint 44J_L (Leaded Chip Carrier, 44-Leads, Body 16.6x16.6mm, Pitch 1.27mm, IPC High Density)
footprint 44J_M (Leaded Chip Carrier, 44-Leads, Body 16.6x16.6mm, Pitch 1.27mm, IPC Low Density)
3D model AT90S8515-44J (44-Pin Leaded Chip Carrier 1.27 mm Pitch)
pins: 1 NC, 2 PB0 (T0) (io), 3 PB1 (T1) (io), 4 PB2 (AIN0) (io), 5 PB3 (AIN1) (io), 6 PB4 (~{SS}) (io), 7 PB5 (MOSI) (io), 8 PB6 (MISO) (io), 9 PB7 (SCK) (io), 10 ~{RESET} (in), 11 PD0 (RXD) (io), 12 NC, 13 PD1 (TXD) (io), 14 PD2 (INT0) (io), 15 PD3 (INT1) (io), 16 PD4 (io), 17 PD5 (OC1A) (io), 18 PD6 (~{WR}) (io), 19 PD7 (~{RD}) (io), 20 XTAL2, 21 XTAL1, 22 GND (power), 23 NC, 24 PC0 (A8) (io), 25 PC1 (A9) (io), 26 PC2 (A10) (io), 27 PC3 (A11) (io), 28 PC4 (A12) (io), 29 PC5 (A13) (io), 30 PC6 (A14) (io), 31 PC7 (A15) (io), 32 OC1B (out), 33 ALE (in), 34 NC, 35 ICP (in), 36 PA7 (AD7) (io), 37 PA6 (AD6) (io), 38 PA5 (AD5) (io), 39 PA4 (AD4) (io), 40 PA3 (AD3) (io), 41 PA2 (AD2) (io), 42 PA1 (AD1) (io), 43 PA0 (AD0) (io), 44 VCC (power)

## AT90S8515-4JI
designator U?
8-Bit AVR Microcontroller with 8K Bytes of In-System Programmable Flash Memory; Published: 17-Sep-2003; LatestRevisionDate: 13-Apr-2006; LatestRevisionNote: IPC-7351 Footprint Added.; DatasheetVersion: 0841G-09/01; PackageVersion: rev.B, Oct-2001; PackageReference: 44J; Publisher: Altium Limited; PackageDescription: 44-Pin Leaded Chip Carrier 1.27 mm Pitch; Code_JEDEC: MS-018-AC; Code_IPC: PLCC-44; ComponentLink1Description: Manufacturer Link; ComponentLink1URL: http://www.atmel.com; ComponentLink2Description: Datasheet; ComponentLink2URL: http://www.atmel.com/dyn/resources/prod_documents/doc0841.pdf
footprint 44J_N (Leaded Chip Carrier, 44-Leads, Body 16.6x16.6mm, Pitch 1.27mm, IPC Medium Density)
footprint 44J_L (Leaded Chip Carrier, 44-Leads, Body 16.6x16.6mm, Pitch 1.27mm, IPC High Density)
footprint 44J_M (Leaded Chip Carrier, 44-Leads, Body 16.6x16.6mm, Pitch 1.27mm, IPC Low Density)
3D model AT90S8515-44J (44-Pin Leaded Chip Carrier 1.27 mm Pitch)
pins: 1 NC, 2 PB0 (T0) (io), 3 PB1 (T1) (io), 4 PB2 (AIN0) (io), 5 PB3 (AIN1) (io), 6 PB4 (~{SS}) (io), 7 PB5 (MOSI) (io), 8 PB6 (MISO) (io), 9 PB7 (SCK) (io), 10 ~{RESET} (in), 11 PD0 (RXD) (io), 12 NC, 13 PD1 (TXD) (io), 14 PD2 (INT0) (io), 15 PD3 (INT1) (io), 16 PD4 (io), 17 PD5 (OC1A) (io), 18 PD6 (~{WR}) (io), 19 PD7 (~{RD}) (io), 20 XTAL2, 21 XTAL1, 22 GND (power), 23 NC, 24 PC0 (A8) (io), 25 PC1 (A9) (io), 26 PC2 (A10) (io), 27 PC3 (A11) (io), 28 PC4 (A12) (io), 29 PC5 (A13) (io), 30 PC6 (A14) (io), 31 PC7 (A15) (io), 32 OC1B (out), 33 ALE (in), 34 NC, 35 ICP (in), 36 PA7 (AD7) (io), 37 PA6 (AD6) (io), 38 PA5 (AD5) (io), 39 PA4 (AD4) (io), 40 PA3 (AD3) (io), 41 PA2 (AD2) (io), 42 PA1 (AD1) (io), 43 PA0 (AD0) (io), 44 VCC (power)

## AT90S8515-4PC
designator U?
8-Bit AVR Microcontroller with 8K Bytes of In-System Programmable Flash Memory; Published: 17-Sep-2003; LatestRevisionDate: 04-Mar-2005; LatestRevisionNote: Stylized 3D Model Added.; DatasheetVersion: 0841G-09/01; PackageVersion: Dec-1999; PackageReference: 40P6; Publisher: Altium Limited; PackageDescription: DIP; 40 Leads; Row Spacing 15.24 mm; Pitch 2.54 mm; ComponentLink1Description: Manufacturer Link; ComponentLink1URL: http://www.atmel.com; ComponentLink2Description: Datasheet; ComponentLink2URL: http://www.atmel.com/dyn/resources/prod_documents/doc0841.pdf
footprint 40P6 (DIP; 40 Leads; Row Spacing 15.24 mm; Pitch 2.54 mm)
3D model 40P6 (DIP; 40 Leads; Row Spacing 15.24 mm; Pitch 2.54 mm)
pins: 1 PB0 (T0) (io), 2 PB1 (T1) (io), 3 PB2 (AIN0) (io), 4 PB3 (AIN1) (io), 5 PB4 (~{SS}) (io), 6 PB5 (MOSI) (io), 7 PB6 (MISO) (io), 8 PB7 (SCK) (io), 9 ~{RESET} (in), 10 PD0 (RXD) (io), 11 PD1 (TXD) (io), 12 PD2 (INT0) (io), 13 PD3 (INT1) (io), 14 PD4 (io), 15 PD5 (OC1A) (io), 16 PD6 (~{WR}) (io), 17 PD7 (~{RD}) (io), 18 XTAL2, 19 XTAL1, 20 GND (power), 21 PC0 (A8) (io), 22 PC1 (A9) (io), 23 PC2 (A10) (io), 24 PC3 (A11) (io), 25 PC4 (A12) (io), 26 PC5 (A13) (io), 27 PC6 (A14) (io), 28 PC7 (A15) (io), 29 OC1B (out), 30 ALE (in), 31 ICP (in), 32 PA7 (AD7) (io), 33 PA6 (AD6) (io), 34 PA5 (AD5) (io), 35 PA4 (AD4) (io), 36 PA3 (AD3) (io), 37 PA2 (AD2) (io), 38 PA1 (AD1) (io), 39 PA0 (AD0) (io), 40 VCC (power)

## AT90S8515-4PI
designator U?
8-Bit AVR Microcontroller with 8K Bytes of In-System Programmable Flash Memory; Published: 17-Sep-2003; LatestRevisionDate: 04-Mar-2005; LatestRevisionNote: Stylized 3D Model Added.; DatasheetVersion: 0841G-09/01; PackageVersion: Dec-1999; PackageReference: 40P6; Publisher: Altium Limited; PackageDescription: DIP; 40 Leads; Row Spacing 15.24 mm; Pitch 2.54 mm; ComponentLink1Description: Manufacturer Link; ComponentLink1URL: http://www.atmel.com; ComponentLink2Description: Datasheet; ComponentLink2URL: http://www.atmel.com/dyn/resources/prod_documents/doc0841.pdf
footprint 40P6 (DIP; 40 Leads; Row Spacing 15.24 mm; Pitch 2.54 mm)
3D model 40P6 (DIP; 40 Leads; Row Spacing 15.24 mm; Pitch 2.54 mm)
pins: 1 PB0 (T0) (io), 2 PB1 (T1) (io), 3 PB2 (AIN0) (io), 4 PB3 (AIN1) (io), 5 PB4 (~{SS}) (io), 6 PB5 (MOSI) (io), 7 PB6 (MISO) (io), 8 PB7 (SCK) (io), 9 ~{RESET} (in), 10 PD0 (RXD) (io), 11 PD1 (TXD) (io), 12 PD2 (INT0) (io), 13 PD3 (INT1) (io), 14 PD4 (io), 15 PD5 (OC1A) (io), 16 PD6 (~{WR}) (io), 17 PD7 (~{RD}) (io), 18 XTAL2, 19 XTAL1, 20 GND (power), 21 PC0 (A8) (io), 22 PC1 (A9) (io), 23 PC2 (A10) (io), 24 PC3 (A11) (io), 25 PC4 (A12) (io), 26 PC5 (A13) (io), 27 PC6 (A14) (io), 28 PC7 (A15) (io), 29 OC1B (out), 30 ALE (in), 31 ICP (in), 32 PA7 (AD7) (io), 33 PA6 (AD6) (io), 34 PA5 (AD5) (io), 35 PA4 (AD4) (io), 36 PA3 (AD3) (io), 37 PA2 (AD2) (io), 38 PA1 (AD1) (io), 39 PA0 (AD0) (io), 40 VCC (power)

## AT90S8515-8AC
designator U?
8-Bit AVR Microcontroller with 8K Bytes of In-System Programmable Flash Memory; Published: 17-Sep-2003; LatestRevisionDate: 13-Apr-2006; LatestRevisionNote: IPC-7351 Footprint Added.; DatasheetVersion: 0841G-09/01; PackageVersion: rev.B, Oct-2001; PackageReference: 44A; Publisher: Altium Limited; PackageDescription: 44-Pin Thin Quad Flat Pack 0.8 mm Pitch; ComponentLink1Description: Manufacturer Link; ComponentLink1URL: http://www.atmel.com; ComponentLink2Description: Datasheet; ComponentLink2URL: http://www.atmel.com/dyn/resources/prod_documents/doc0841.pdf
footprint 44A_N (Thin QFP, 44-Leads, Body 10x10mm, Pitch 0.8mm, IPC Medium Density)
footprint 44A_L (Thin QFP, 44-Leads, Body 10x10mm, Pitch 0.8mm, IPC High Density)
footprint 44A_M (Thin QFP, 44-Leads, Body 10x10mm, Pitch 0.8mm, IPC Low Density)
3D model AT90S8515-44A (44-Pin Thin Quad Flat Pack 0.8 mm Pitch)
pins: 1 PB5 (MOSI) (io), 2 PB6 (MISO) (io), 3 PB7 (SCK) (io), 4 ~{RESET} (in), 5 PD0 (RXD) (io), 6 NC, 7 PD1 (TXD) (io), 8 PD2 (INT0) (io), 9 PD3 (INT1) (io), 10 PD4 (io), 11 PD5 (OC1A) (io), 12 PD6 (~{WR}) (io), 13 PD7 (~{RD}) (io), 14 XTAL2, 15 XTAL1, 16 GND (power), 17 NC, 18 PC0 (A8) (io), 19 PC1 (A9) (io), 20 PC2 (A10) (io), 21 PC3 (A11) (io), 22 PC4 (A12) (io), 23 PC5 (A13) (io), 24 PC6 (A14) (io), 25 PC7 (A15) (io), 26 OC1B (out), 27 ALE (in), 28 NC, 29 ICP (in), 30 PA7 (AD7) (io), 31 PA6 (AD6) (io), 32 PA5 (AD5) (io), 33 PA4 (AD4) (io), 34 PA3 (AD3) (io), 35 PA2 (AD2) (io), 36 PA1 (AD1) (io), 37 PA0 (AD0) (io), 38 VCC (power), 39 NC, 40 PB0 (T0) (io), 41 PB1 (T1) (io), 42 PB2 (AIN0) (io), 43 PB3 (AIN1) (io), 44 PB4 (~{SS}) (io)

## AT90S8515-8AI
designator U?
8-Bit AVR Microcontroller with 8K Bytes of In-System Programmable Flash Memory; Published: 17-Sep-2003; LatestRevisionDate: 13-Apr-2006; LatestRevisionNote: IPC-7351 Footprint Added.; DatasheetVersion: 0841G-09/01; PackageVersion: rev.B, Oct-2001; PackageReference: 44A; Publisher: Altium Limited; PackageDescription: 44-Pin Thin Quad Flat Pack 0.8 mm Pitch; ComponentLink1Description: Manufacturer Link; ComponentLink1URL: http://www.atmel.com; ComponentLink2Description: Datasheet; ComponentLink2URL: http://www.atmel.com/dyn/resources/prod_documents/doc0841.pdf
footprint 44A_N (Thin QFP, 44-Leads, Body 10x10mm, Pitch 0.8mm, IPC Medium Density)
footprint 44A_L (Thin QFP, 44-Leads, Body 10x10mm, Pitch 0.8mm, IPC High Density)
footprint 44A_M (Thin QFP, 44-Leads, Body 10x10mm, Pitch 0.8mm, IPC Low Density)
3D model AT90S8515-44A (44-Pin Thin Quad Flat Pack 0.8 mm Pitch)
pins: 1 PB5 (MOSI) (io), 2 PB6 (MISO) (io), 3 PB7 (SCK) (io), 4 ~{RESET} (in), 5 PD0 (RXD) (io), 6 NC, 7 PD1 (TXD) (io), 8 PD2 (INT0) (io), 9 PD3 (INT1) (io), 10 PD4 (io), 11 PD5 (OC1A) (io), 12 PD6 (~{WR}) (io), 13 PD7 (~{RD}) (io), 14 XTAL2, 15 XTAL1, 16 GND (power), 17 NC, 18 PC0 (A8) (io), 19 PC1 (A9) (io), 20 PC2 (A10) (io), 21 PC3 (A11) (io), 22 PC4 (A12) (io), 23 PC5 (A13) (io), 24 PC6 (A14) (io), 25 PC7 (A15) (io), 26 OC1B (out), 27 ALE (in), 28 NC, 29 ICP (in), 30 PA7 (AD7) (io), 31 PA6 (AD6) (io), 32 PA5 (AD5) (io), 33 PA4 (AD4) (io), 34 PA3 (AD3) (io), 35 PA2 (AD2) (io), 36 PA1 (AD1) (io), 37 PA0 (AD0) (io), 38 VCC (power), 39 NC, 40 PB0 (T0) (io), 41 PB1 (T1) (io), 42 PB2 (AIN0) (io), 43 PB3 (AIN1) (io), 44 PB4 (~{SS}) (io)

## AT90S8515-8JC
designator U?
8-Bit AVR Microcontroller with 8K Bytes of In-System Programmable Flash Memory; Published: 17-Sep-2003; LatestRevisionDate: 13-Apr-2006; LatestRevisionNote: IPC-7351 Footprint Added.; DatasheetVersion: 0841G-09/01; PackageVersion: rev.B, Oct-2001; PackageReference: 44J; Publisher: Altium Limited; PackageDescription: 44-Pin Leaded Chip Carrier 1.27 mm Pitch; Code_JEDEC: MS-018-AC; Code_IPC: PLCC-44; ComponentLink1Description: Manufacturer Link; ComponentLink1URL: http://www.atmel.com; ComponentLink2Description: Datasheet; ComponentLink2URL: http://www.atmel.com/dyn/resources/prod_documents/doc0841.pdf
footprint 44J_N (Leaded Chip Carrier, 44-Leads, Body 16.6x16.6mm, Pitch 1.27mm, IPC Medium Density)
footprint 44J_L (Leaded Chip Carrier, 44-Leads, Body 16.6x16.6mm, Pitch 1.27mm, IPC High Density)
footprint 44J_M (Leaded Chip Carrier, 44-Leads, Body 16.6x16.6mm, Pitch 1.27mm, IPC Low Density)
3D model AT90S8515-44J (44-Pin Leaded Chip Carrier 1.27 mm Pitch)
pins: 1 NC, 2 PB0 (T0) (io), 3 PB1 (T1) (io), 4 PB2 (AIN0) (io), 5 PB3 (AIN1) (io), 6 PB4 (~{SS}) (io), 7 PB5 (MOSI) (io), 8 PB6 (MISO) (io), 9 PB7 (SCK) (io), 10 ~{RESET} (in), 11 PD0 (RXD) (io), 12 NC, 13 PD1 (TXD) (io), 14 PD2 (INT0) (io), 15 PD3 (INT1) (io), 16 PD4 (io), 17 PD5 (OC1A) (io), 18 PD6 (~{WR}) (io), 19 PD7 (~{RD}) (io), 20 XTAL2, 21 XTAL1, 22 GND (power), 23 NC, 24 PC0 (A8) (io), 25 PC1 (A9) (io), 26 PC2 (A10) (io), 27 PC3 (A11) (io), 28 PC4 (A12) (io), 29 PC5 (A13) (io), 30 PC6 (A14) (io), 31 PC7 (A15) (io), 32 OC1B (out), 33 ALE (in), 34 NC, 35 ICP (in), 36 PA7 (AD7) (io), 37 PA6 (AD6) (io), 38 PA5 (AD5) (io), 39 PA4 (AD4) (io), 40 PA3 (AD3) (io), 41 PA2 (AD2) (io), 42 PA1 (AD1) (io), 43 PA0 (AD0) (io), 44 VCC (power)

## AT90S8515-8JI
designator U?
8-Bit AVR Microcontroller with 8K Bytes of In-System Programmable Flash Memory; Published: 17-Sep-2003; LatestRevisionDate: 13-Apr-2006; LatestRevisionNote: IPC-7351 Footprint Added.; DatasheetVersion: 0841G-09/01; PackageVersion: rev.B, Oct-2001; PackageReference: 44J; Publisher: Altium Limited; PackageDescription: 44-Pin Leaded Chip Carrier 1.27 mm Pitch; Code_JEDEC: MS-018-AC; Code_IPC: PLCC-44; ComponentLink1Description: Manufacturer Link; ComponentLink1URL: http://www.atmel.com; ComponentLink2Description: Datasheet; ComponentLink2URL: http://www.atmel.com/dyn/resources/prod_documents/doc0841.pdf
footprint 44J_N (Leaded Chip Carrier, 44-Leads, Body 16.6x16.6mm, Pitch 1.27mm, IPC Medium Density)
footprint 44J_L (Leaded Chip Carrier, 44-Leads, Body 16.6x16.6mm, Pitch 1.27mm, IPC High Density)
footprint 44J_M (Leaded Chip Carrier, 44-Leads, Body 16.6x16.6mm, Pitch 1.27mm, IPC Low Density)
3D model AT90S8515-44J (44-Pin Leaded Chip Carrier 1.27 mm Pitch)
pins: 1 NC, 2 PB0 (T0) (io), 3 PB1 (T1) (io), 4 PB2 (AIN0) (io), 5 PB3 (AIN1) (io), 6 PB4 (~{SS}) (io), 7 PB5 (MOSI) (io), 8 PB6 (MISO) (io), 9 PB7 (SCK) (io), 10 ~{RESET} (in), 11 PD0 (RXD) (io), 12 NC, 13 PD1 (TXD) (io), 14 PD2 (INT0) (io), 15 PD3 (INT1) (io), 16 PD4 (io), 17 PD5 (OC1A) (io), 18 PD6 (~{WR}) (io), 19 PD7 (~{RD}) (io), 20 XTAL2, 21 XTAL1, 22 GND (power), 23 NC, 24 PC0 (A8) (io), 25 PC1 (A9) (io), 26 PC2 (A10) (io), 27 PC3 (A11) (io), 28 PC4 (A12) (io), 29 PC5 (A13) (io), 30 PC6 (A14) (io), 31 PC7 (A15) (io), 32 OC1B (out), 33 ALE (in), 34 NC, 35 ICP (in), 36 PA7 (AD7) (io), 37 PA6 (AD6) (io), 38 PA5 (AD5) (io), 39 PA4 (AD4) (io), 40 PA3 (AD3) (io), 41 PA2 (AD2) (io), 42 PA1 (AD1) (io), 43 PA0 (AD0) (io), 44 VCC (power)

## AT90S8515-8PC
designator U?
8-Bit AVR Microcontroller with 8K Bytes of In-System Programmable Flash Memory; Published: 17-Sep-2003; LatestRevisionDate: 04-Mar-2005; LatestRevisionNote: Stylized 3D Model Added.; DatasheetVersion: 0841G-09/01; PackageVersion: Dec-1999; PackageReference: 40P6; Publisher: Altium Limited; PackageDescription: DIP; 40 Leads; Row Spacing 15.24 mm; Pitch 2.54 mm; ComponentLink1Description: Manufacturer Link; ComponentLink1URL: http://www.atmel.com; ComponentLink2Description: Datasheet; ComponentLink2URL: http://www.atmel.com/dyn/resources/prod_documents/doc0841.pdf
footprint 40P6 (DIP; 40 Leads; Row Spacing 15.24 mm; Pitch 2.54 mm)
3D model 40P6 (DIP; 40 Leads; Row Spacing 15.24 mm; Pitch 2.54 mm)
pins: 1 PB0 (T0) (io), 2 PB1 (T1) (io), 3 PB2 (AIN0) (io), 4 PB3 (AIN1) (io), 5 PB4 (~{SS}) (io), 6 PB5 (MOSI) (io), 7 PB6 (MISO) (io), 8 PB7 (SCK) (io), 9 ~{RESET} (in), 10 PD0 (RXD) (io), 11 PD1 (TXD) (io), 12 PD2 (INT0) (io), 13 PD3 (INT1) (io), 14 PD4 (io), 15 PD5 (OC1A) (io), 16 PD6 (~{WR}) (io), 17 PD7 (~{RD}) (io), 18 XTAL2, 19 XTAL1, 20 GND (power), 21 PC0 (A8) (io), 22 PC1 (A9) (io), 23 PC2 (A10) (io), 24 PC3 (A11) (io), 25 PC4 (A12) (io), 26 PC5 (A13) (io), 27 PC6 (A14) (io), 28 PC7 (A15) (io), 29 OC1B (out), 30 ALE (in), 31 ICP (in), 32 PA7 (AD7) (io), 33 PA6 (AD6) (io), 34 PA5 (AD5) (io), 35 PA4 (AD4) (io), 36 PA3 (AD3) (io), 37 PA2 (AD2) (io), 38 PA1 (AD1) (io), 39 PA0 (AD0) (io), 40 VCC (power)

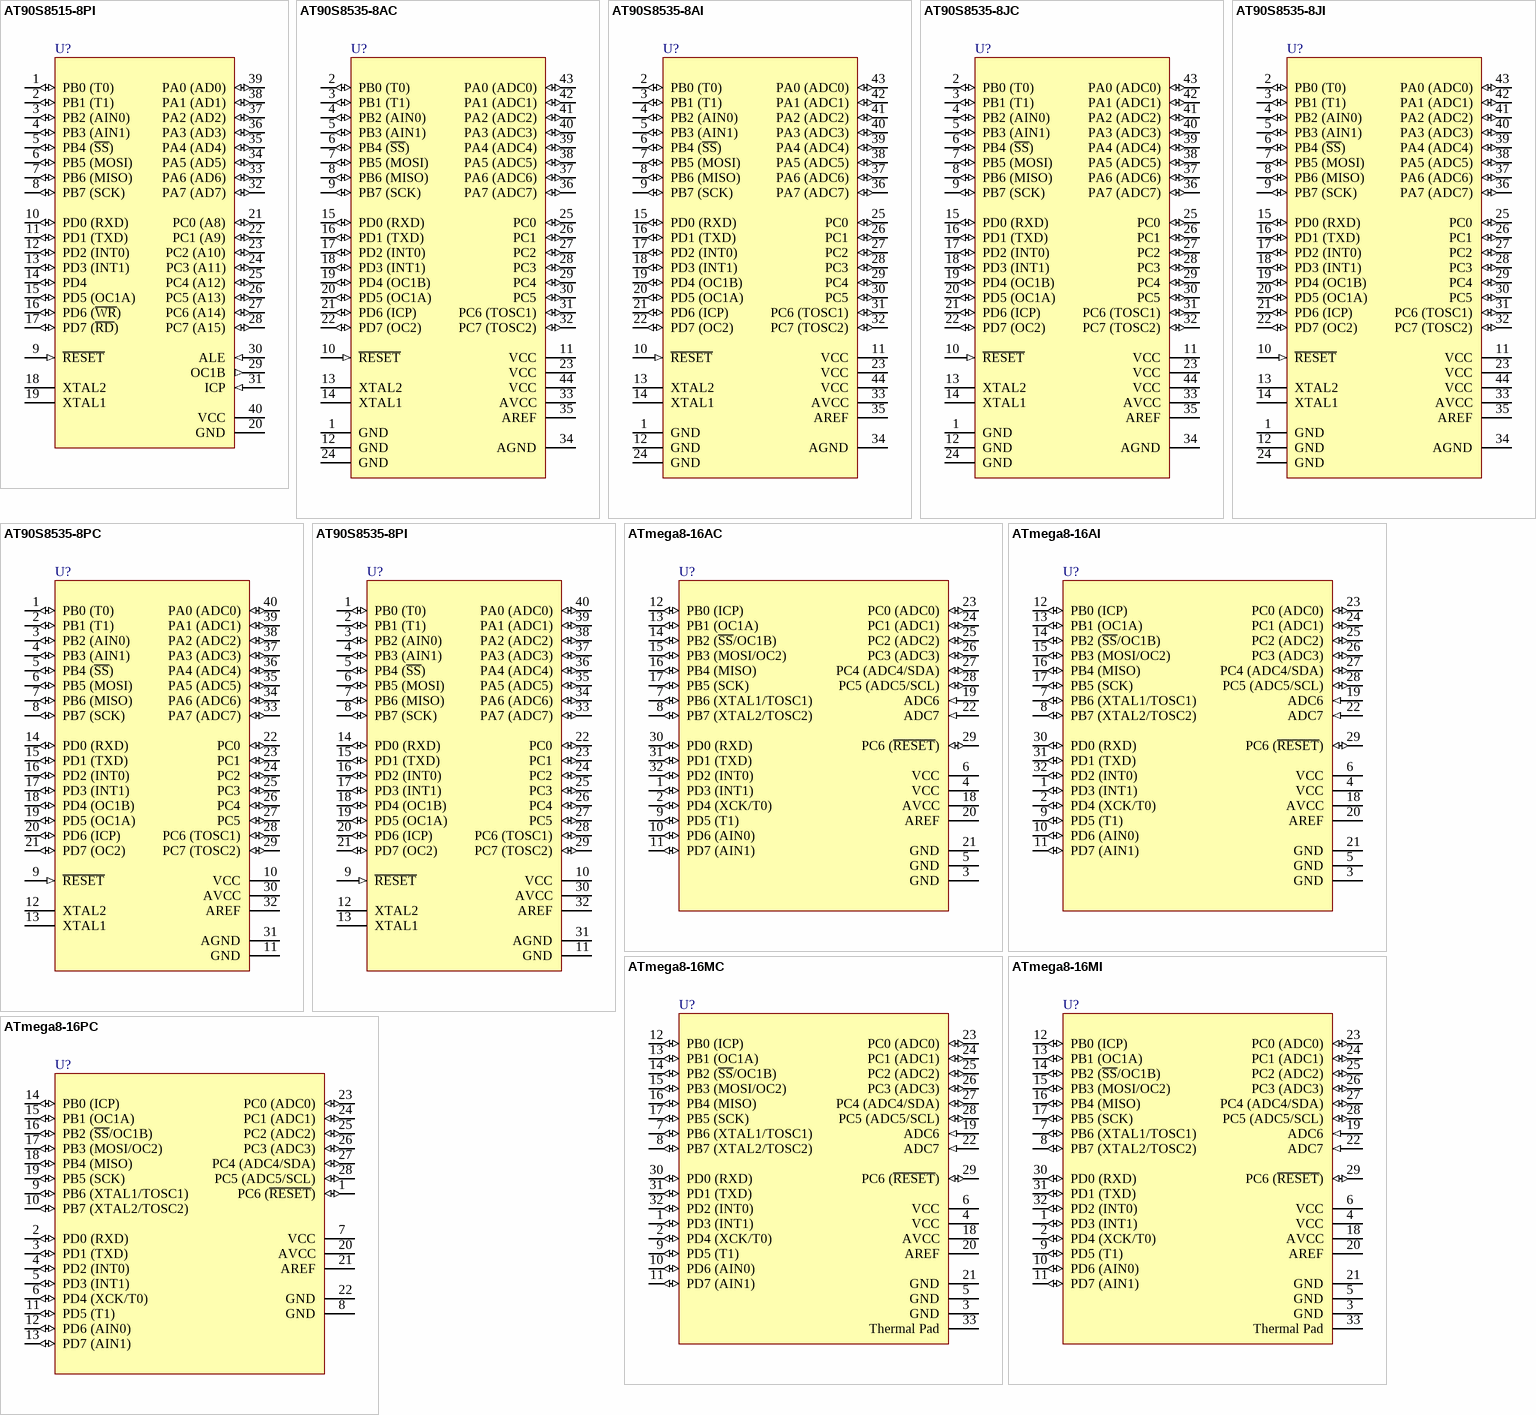
[diagram p4: symbols AT90S8515-8PI to ATmega8-16PC]

## AT90S8515-8PI
designator U?
8-Bit AVR Microcontroller with 8K Bytes of In-System Programmable Flash Memory; Published: 17-Sep-2003; LatestRevisionDate: 04-Mar-2005; LatestRevisionNote: Stylized 3D Model Added.; DatasheetVersion: 0841G-09/01; PackageVersion: Dec-1999; PackageReference: 40P6; Publisher: Altium Limited; PackageDescription: DIP; 40 Leads; Row Spacing 15.24 mm; Pitch 2.54 mm; ComponentLink1Description: Manufacturer Link; ComponentLink1URL: http://www.atmel.com; ComponentLink2Description: Datasheet; ComponentLink2URL: http://www.atmel.com/dyn/resources/prod_documents/doc0841.pdf
footprint 40P6 (DIP; 40 Leads; Row Spacing 15.24 mm; Pitch 2.54 mm)
3D model 40P6 (DIP; 40 Leads; Row Spacing 15.24 mm; Pitch 2.54 mm)
pins: 1 PB0 (T0) (io), 2 PB1 (T1) (io), 3 PB2 (AIN0) (io), 4 PB3 (AIN1) (io), 5 PB4 (~{SS}) (io), 6 PB5 (MOSI) (io), 7 PB6 (MISO) (io), 8 PB7 (SCK) (io), 9 ~{RESET} (in), 10 PD0 (RXD) (io), 11 PD1 (TXD) (io), 12 PD2 (INT0) (io), 13 PD3 (INT1) (io), 14 PD4 (io), 15 PD5 (OC1A) (io), 16 PD6 (~{WR}) (io), 17 PD7 (~{RD}) (io), 18 XTAL2, 19 XTAL1, 20 GND (power), 21 PC0 (A8) (io), 22 PC1 (A9) (io), 23 PC2 (A10) (io), 24 PC3 (A11) (io), 25 PC4 (A12) (io), 26 PC5 (A13) (io), 27 PC6 (A14) (io), 28 PC7 (A15) (io), 29 OC1B (out), 30 ALE (in), 31 ICP (in), 32 PA7 (AD7) (io), 33 PA6 (AD6) (io), 34 PA5 (AD5) (io), 35 PA4 (AD4) (io), 36 PA3 (AD3) (io), 37 PA2 (AD2) (io), 38 PA1 (AD1) (io), 39 PA0 (AD0) (io), 40 VCC (power)

## AT90S8535-8AC
designator U?
8-Bit AVR Microcontroller with 8K Bytes of In-System Programmable Flash Memory; Published: 17-Sep-2003; LatestRevisionDate: 13-Apr-2006; LatestRevisionNote: IPC-7351 Footprint Added.; DatasheetVersion: 1041H-11/01; PackageVersion: rev.B, Oct-2001; PackageReference: 44A; Publisher: Altium Limited; PackageDescription: 44-Pin Thin Quad Flat Pack 0.8 mm Pitch; ComponentLink1Description: Manufacturer Link; ComponentLink1URL: http://www.atmel.com; ComponentLink2Description: Datasheet; ComponentLink2URL: http://www.atmel.com/dyn/resources/prod_documents/doc1041.pdf
footprint 44A_N (Thin QFP, 44-Leads, Body 10x10mm, Pitch 0.8mm, IPC Medium Density)
footprint 44A_L (Thin QFP, 44-Leads, Body 10x10mm, Pitch 0.8mm, IPC High Density)
footprint 44A_M (Thin QFP, 44-Leads, Body 10x10mm, Pitch 0.8mm, IPC Low Density)
3D model AT90S8535-44A (44-Pin Thin Quad Flat Pack 0.8 mm Pitch)
pins: 1 GND (power), 2 PB0 (T0) (io), 3 PB1 (T1) (io), 4 PB2 (AIN0) (io), 5 PB3 (AIN1) (io), 6 PB4 (~{SS}) (io), 7 PB5 (MOSI) (io), 8 PB6 (MISO) (io), 9 PB7 (SCK) (io), 10 ~{RESET} (in), 11 VCC (power), 12 GND (power), 13 XTAL2, 14 XTAL1, 15 PD0 (RXD) (io), 16 PD1 (TXD) (io), 17 PD2 (INT0) (io), 18 PD3 (INT1) (io), 19 PD4 (OC1B) (io), 20 PD5 (OC1A) (io), 21 PD6 (ICP) (io), 22 PD7 (OC2) (io), 23 VCC (power), 24 GND (power), 25 PC0 (io), 26 PC1 (io), 27 PC2 (io), 28 PC3 (io), 29 PC4 (io), 30 PC5 (io), 31 PC6 (TOSC1) (io), 32 PC7 (TOSC2) (io), 33 AVCC (power), 34 AGND (power), 35 AREF, 36 PA7 (ADC7) (io), 37 PA6 (ADC6) (io), 38 PA5 (ADC5) (io), 39 PA4 (ADC4) (io), 40 PA3 (ADC3) (io), 41 PA2 (ADC2) (io), 42 PA1 (ADC1) (io), 43 PA0 (ADC0) (io), 44 VCC (power)

## AT90S8535-8AI
designator U?
8-Bit AVR Microcontroller with 8K Bytes of In-System Programmable Flash Memory; Published: 17-Sep-2003; LatestRevisionDate: 13-Apr-2006; LatestRevisionNote: IPC-7351 Footprint Added.; DatasheetVersion: 1041H-11/01; PackageVersion: rev.B, Oct-2001; PackageReference: 44A; Publisher: Altium Limited; PackageDescription: 44-Pin Thin Quad Flat Pack 0.8 mm Pitch; ComponentLink1Description: Manufacturer Link; ComponentLink1URL: http://www.atmel.com; ComponentLink2Description: Datasheet; ComponentLink2URL: http://www.atmel.com/dyn/resources/prod_documents/doc1041.pdf
footprint 44A_N (Thin QFP, 44-Leads, Body 10x10mm, Pitch 0.8mm, IPC Medium Density)
footprint 44A_L (Thin QFP, 44-Leads, Body 10x10mm, Pitch 0.8mm, IPC High Density)
footprint 44A_M (Thin QFP, 44-Leads, Body 10x10mm, Pitch 0.8mm, IPC Low Density)
3D model AT90S8535-44A (44-Pin Thin Quad Flat Pack 0.8 mm Pitch)
pins: 1 GND (power), 2 PB0 (T0) (io), 3 PB1 (T1) (io), 4 PB2 (AIN0) (io), 5 PB3 (AIN1) (io), 6 PB4 (~{SS}) (io), 7 PB5 (MOSI) (io), 8 PB6 (MISO) (io), 9 PB7 (SCK) (io), 10 ~{RESET} (in), 11 VCC (power), 12 GND (power), 13 XTAL2, 14 XTAL1, 15 PD0 (RXD) (io), 16 PD1 (TXD) (io), 17 PD2 (INT0) (io), 18 PD3 (INT1) (io), 19 PD4 (OC1B) (io), 20 PD5 (OC1A) (io), 21 PD6 (ICP) (io), 22 PD7 (OC2) (io), 23 VCC (power), 24 GND (power), 25 PC0 (io), 26 PC1 (io), 27 PC2 (io), 28 PC3 (io), 29 PC4 (io), 30 PC5 (io), 31 PC6 (TOSC1) (io), 32 PC7 (TOSC2) (io), 33 AVCC (power), 34 AGND (power), 35 AREF, 36 PA7 (ADC7) (io), 37 PA6 (ADC6) (io), 38 PA5 (ADC5) (io), 39 PA4 (ADC4) (io), 40 PA3 (ADC3) (io), 41 PA2 (ADC2) (io), 42 PA1 (ADC1) (io), 43 PA0 (ADC0) (io), 44 VCC (power)

## AT90S8535-8JC
designator U?
8-Bit AVR Microcontroller with 8K Bytes of In-System Programmable Flash Memory; Published: 17-Sep-2003; LatestRevisionDate: 13-Apr-2006; LatestRevisionNote: IPC-7351 Footprint Added.; DatasheetVersion: 1041H-11/01; PackageVersion: rev.B, Oct-2001; PackageReference: 44J; Publisher: Altium Limited; PackageDescription: 44-Pin Leaded Chip Carrier 1.27 mm Pitch; Code_JEDEC: MS-018-AC; Code_IPC: PLCC-44; ComponentLink1Description: Manufacturer Link; ComponentLink1URL: http://www.atmel.com; ComponentLink2Description: Datasheet; ComponentLink2URL: http://www.atmel.com/dyn/resources/prod_documents/doc1041.pdf
footprint 44J_N (Leaded Chip Carrier, 44-Leads, Body 16.6x16.6mm, Pitch 1.27mm, IPC Medium Density)
footprint 44J_L (Leaded Chip Carrier, 44-Leads, Body 16.6x16.6mm, Pitch 1.27mm, IPC High Density)
footprint 44J_M (Leaded Chip Carrier, 44-Leads, Body 16.6x16.6mm, Pitch 1.27mm, IPC Low Density)
3D model AT90S8535-44J (44-Pin Leaded Chip Carrier 1.27 mm Pitch)
pins: 1 GND (power), 2 PB0 (T0) (io), 3 PB1 (T1) (io), 4 PB2 (AIN0) (io), 5 PB3 (AIN1) (io), 6 PB4 (~{SS}) (io), 7 PB5 (MOSI) (io), 8 PB6 (MISO) (io), 9 PB7 (SCK) (io), 10 ~{RESET} (in), 11 VCC (power), 12 GND (power), 13 XTAL2, 14 XTAL1, 15 PD0 (RXD) (io), 16 PD1 (TXD) (io), 17 PD2 (INT0) (io), 18 PD3 (INT1) (io), 19 PD4 (OC1B) (io), 20 PD5 (OC1A) (io), 21 PD6 (ICP) (io), 22 PD7 (OC2) (io), 23 VCC (power), 24 GND (power), 25 PC0 (io), 26 PC1 (io), 27 PC2 (io), 28 PC3 (io), 29 PC4 (io), 30 PC5 (io), 31 PC6 (TOSC1) (io), 32 PC7 (TOSC2) (io), 33 AVCC (power), 34 AGND (power), 35 AREF, 36 PA7 (ADC7) (io), 37 PA6 (ADC6) (io), 38 PA5 (ADC5) (io), 39 PA4 (ADC4) (io), 40 PA3 (ADC3) (io), 41 PA2 (ADC2) (io), 42 PA1 (ADC1) (io), 43 PA0 (ADC0) (io), 44 VCC (power)